# Altium schematic symbol library mcu_32bit_atsam.SchLib: 1 symbol
Pins are listed as number, name and electrical type; pins without a type are passive.

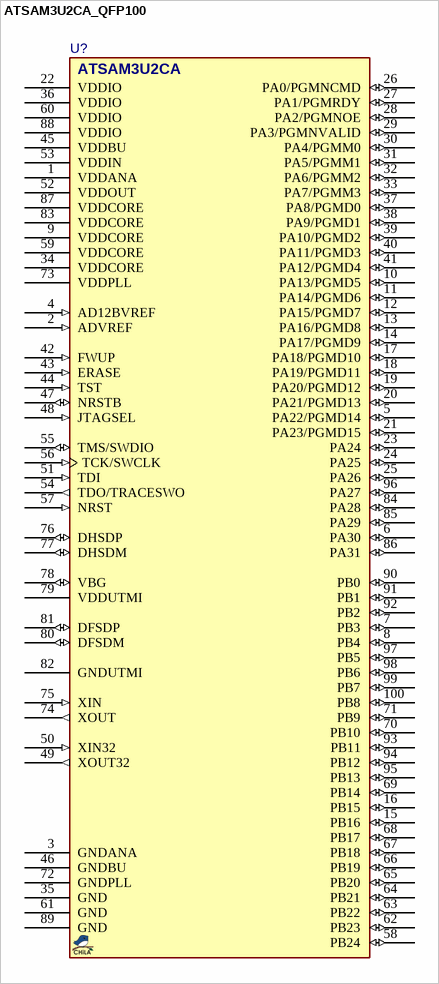
[diagram p0: symbol ATSAM3U2CA_QFP100]

## ATSAM3U2CA_QFP100
designator U?, comment ATSAM3U2CA  (value not drawn)
MCU, ARM 32-Bit, Cortex-M3, 128KB, 36KB SRAM, 96MHz; MANF_P#: ATSAM3U2CA-AU; MANF: ATMEL/MICROCHIP; PARAM2: 1.8~3.6V; PARAM: 128KB, 36KB SRAM, 96MHz, -40~85°C; PRICE: 6$; VALUE: ATSAM3U2CA; PACKAGE: QFP-100
footprint QFG50_100 (LQFP100, PQFP100, A100 (Cypress), TQ100/VQ100 (Xilinx), 14.0x14.0mm, Pitch 0.5mm, HT100, HTG100)
pins: 1 VDDANA (power), 2 ADVREF (in), 3 GNDANA (power), 4 AD12BVREF (in), 5 PA22/PGMD14 (io), 6 PA30 (io), 7 PB3 (io), 8 PB4 (io), 9 VDDCORE (power), 10 PA13/PGMD5 (io), 11 PA14/PGMD6 (io), 12 PA15/PGMD7 (io), 13 PA16/PGMD8 (io), 14 PA17/PGMD9 (io), 15 PB16 (io), 16 PB15 (io), 17 PA18/PGMD10 (io), 18 PA19/PGMD11 (io), 19 PA20/PGMD12 (io), 20 PA21/PGMD13 (io), 21 PA23/PGMD15 (io), 22 VDDIO (power), 23 PA24 (io), 24 PA25 (io), 25 PA26 (io), 26 PA0/PGMNCMD (io), 27 PA1/PGMRDY (io), 28 PA2/PGMNOE (io), 29 PA3/PGMNVALID (io), 30 PA4/PGMM0 (io), 31 PA5/PGMM1 (io), 32 PA6/PGMM2 (io), 33 PA7/PGMM3 (io), 34 VDDCORE (power), 35 GND (power), 36 VDDIO (power), 37 PA8/PGMD0 (io), 38 PA9/PGMD1 (io), 39 PA10/PGMD2 (io), 40 PA11/PGMD3 (io), 41 PA12/PGMD4 (io), 42 FWUP (in), 43 ERASE (in), 44 TST (in), 45 VDDBU (power), 46 GNDBU (power), 47 NRSTB (io), 48 JTAGSEL (in), 49 XOUT32 (out), 50 XIN32 (in), 51 TDI (in), 52 VDDOUT (power), 53 VDDIN (power), 54 TDO/TRACESWO (out), 55 TMS/SWDIO (io), 56 TCK/SWCLK (in), 57 NRST (in), 58 PB24 (io), 59 VDDCORE (power), 60 VDDIO (power), 61 GND (power), 62 PB23 (io), 63 PB22 (io), 64 PB21 (io), 65 PB20 (io), 66 PB19 (io), 67 PB18 (io), 68 PB17 (io), 69 PB14 (io), 70 PB10 (io), 71 PB9 (io), 72 GNDPLL (power), 73 VDDPLL (power), 74 XOUT (out), 75 XIN (in), 76 DHSDP (io), 77 DHSDM (io), 78 VBG (io), 79 VDDUTMI (power), 80 DFSDM (io), 81 DFSDP (io), 82 GNDUTMI (power), 83 VDDCORE (power), 84 PA28 (io), 85 PA29 (io), 86 PA31 (io), 87 VDDCORE (power), 88 VDDIO (power), 89 GND (power), 90 PB0 (io), 91 PB1 (io), 92 PB2 (io), 93 PB11 (io), 94 PB12 (io), 95 PB13 (io), 96 PA27 (io), 97 PB5 (io), 98 PB6 (io), 99 PB7 (io), 100 PB8 (io)